# Altium footprint library Power Integrations 公司.PcbLib: 3 footprints
Each footprint in its own frame and in the unit in brackets; x right, y up, seen from the top. Pads: shape width x height; smd on the part's side, far side on the other; paste and mask are expansions set on the pad; w line width, h text height; cw(c..) or ccw(c..) is an arc to the next point about the centre after c.
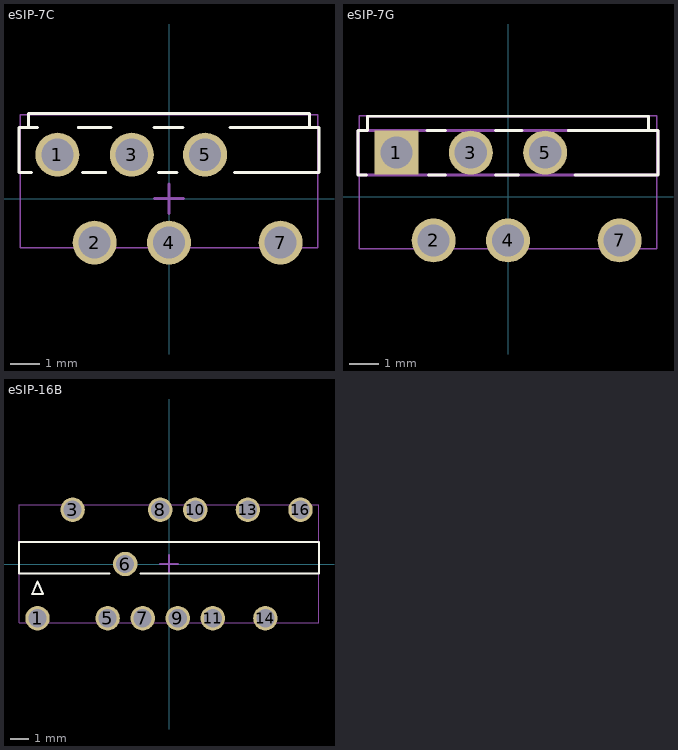
[diagram p0: the footprints below, top view; thin cyan lines are the x and y axes]

## eSIP-7C [mm] "TOP264-271封装"
height 10
pads (6):
  round 1.5 hole 1.1: 1(-3.81,1.5) 2(-2.54,-1.5) 3(-1.27,1.5) 4(0,-1.5) 5(1.23,1.5) 7(3.81,-1.5)
Top Overlay:
  lines w0.1: -4.8,2.43 -4.8,2.91 4.8,2.91 4.8,2.43 ; -4.699,0.9 -5.12,0.9 -5.12,2.43 -4.496,2.43 ; -3.099,2.43 -1.981,2.43 ; -2.946,0.9 -2.159,0.9 ; -0.508,2.43 0.474,2.43 ; -0.356,0.9 0.279,0.9 ; 2.083,2.43 5.12,2.43 5.12,0.9 2.235,0.9
Mechanical 11:
  lines w0.1: -0.5,0 0.5,0 ; 0,-0.5 0,0.5
Mechanical 13:
  lines w0.05: -5.08,-1.676 -5.08,2.864 5.08,2.864 5.08,-1.676 -5.08,-1.676
3D body: height 10.19, standoff -2.7, extent -5.08,-1.676 5.08,2.864

## eSIP-7G [mm] "Powerint switch power footage"
height 10
pads (6):
  rect 1.5x1.5 hole 1.1: 1(-3.81,1.5)
  round 1.5 hole 1.1: 2(-2.54,-1.5) 3(-1.27,1.5) 4(0,-1.5) 5(1.27,1.5) 7(3.81,-1.5)
Top Overlay:
  lines w0.1: -4.826,0.74 -5.12,0.74 -5.12,2.26 -4.8,2.26 -4.8,2.74 4.8,2.74 4.8,2.26 ; -2.769,2.26 -2.134,2.26 ; -2.718,0.74 -2.134,0.74 ; -0.432,0.74 0.356,0.74 ; -0.432,2.26 0.483,2.26 ; 2.057,2.26 5.08,2.26 ; 2.286,0.74 5.105,0.74 5.12,0.74 5.12,2.26
Mechanical 13:
  lines w0.05: -5.08,-1.778 -5.08,2.762 5.08,2.762 5.08,-1.778 -5.08,-1.778
Mechanical 15:
  lines w0.1: -4.8,2.26 -4.8,2.74 4.8,2.74 4.8,2.26 ; -5.12,0.74 -5.12,2.26 5.12,2.26 5.12,0.74 -5.12,0.74
3D body: height 11.19, standoff -1.7, extent -5.08,-1.778 5.08,2.762

## eSIP-16B [mm] "TFS开关电源控制芯片"
height 10
pads (12):
  round 1.35 hole 1: 1(-7.275,-3) 3(-5.335,3) 5(-3.395,-3) 6(-2.425,0) 7(-1.455,-3) 8(-0.485,3) 9(0.485,-3) 10(1.455,3) 11(2.425,-3) 13(4.365,3) 14(5.335,-3) 16(7.275,3)
Top Overlay:
  lines w0.1: -3.277,-0.53 -8.3,-0.53 -8.3,1.22 8.3,1.22 8.3,-0.53 -1.575,-0.53 ; -7.575,-1.668 -6.975,-1.668 -7.275,-0.968 -7.575,-1.668
Mechanical 13:
  lines w0.05: -8.275,-3.251 8.275,-3.251 8.275,3.274 -8.275,3.274 -8.275,-3.251
Mechanical 15:
  lines w0.1: -0.5,0 0.5,0 ; 0,-0.5 0,0.5
3D body: height 11.2, standoff -2, extent -8.275,-3.251 8.275,3.274